# Altium footprint library SOP127P600-8N_PushButtonSwitch_CnK.PcbLib: 1 footprints
Each footprint in its own frame and in the unit in brackets; x right, y up, seen from the top. Pads: shape width x height; smd on the part's side, far side on the other; paste and mask are expansions set on the pad; w line width, h text height; cw(c..) or ccw(c..) is an arc to the next point about the centre after c.
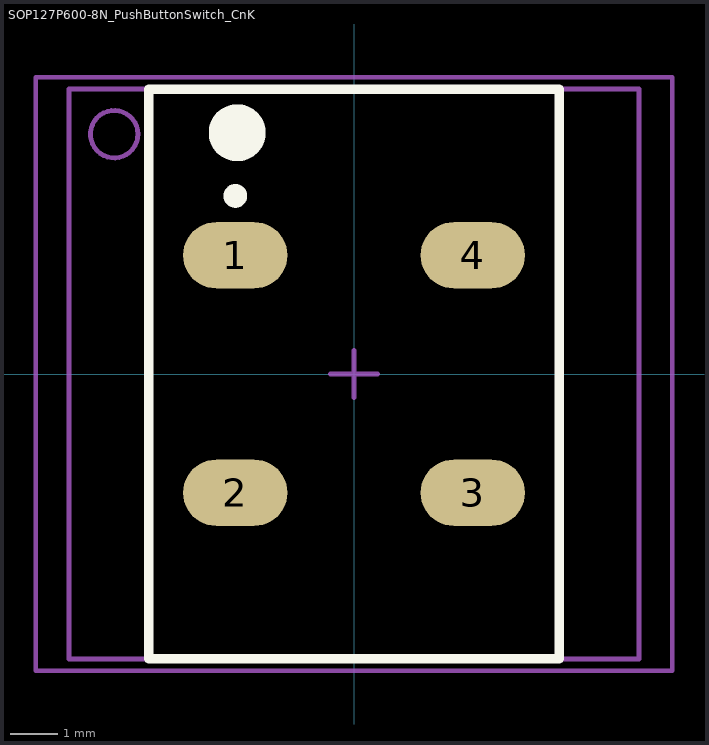
[diagram p0: the footprint, top view; thin cyan lines are the x and y axes]

## SOP127P600-8N_PushButtonSwitch_CnK [mm] "SOP127P600-8N_PushButtonSwitch_CnK"
height 5.11
pads (4):
  oval 2.2x1.4 smd: 1(-2.5,2.5) 2(-2.5,-2.5) 3(2.5,-2.5) 4(2.5,2.5)
Top Overlay:
  circle w0.6: c-2.459,5.08 r0.3
  circle w0.25: c-2.5,3.75 r0.125
  lines w0.2: -4.318,-6 4.318,-6 4.318,6 -4.318,6 -4.318,-6
Mechanical 13:
  circle w0.1: c-5.05,5.05 r0.5
  lines w0.1: -6,-6 6,-6 6,6 -6,6 -6,-6
Mechanical 15:
  lines w0.1: -0.5,0 0.5,0 ; 0,-0.5 0,0.5 ; -6.7,-6.25 6.7,-6.25 6.7,6.25 -6.7,6.25 -6.7,-6.25
3D body: height 5.11, standoff 0.15, extent -6,-6 6,6